# Altium schematic symbol library WE-CCMF.SchLib: 3 symbols
Pins are listed as number, name and electrical type; pins without a type are passive.

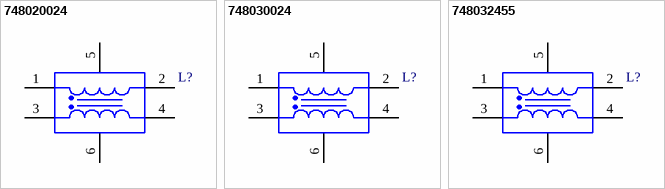
[diagram p0: symbols 748020024 to 748032455]

## 748020024
designator L?, comment 2450MHz, 30dB  (value not drawn)
WE-CCMF Ceramic Common Mode Filter, size 0504, 2450MHz, 30dB; Manufacturer Part Number: 748020024; Manufacturer: Wurth Elektronik; Case/Size Code: 0504; Cut Off Frequency: 8GHz; DC Resistance Max: 2.5Ohm; Impedance @100MHz: 2Ohm; Insulation Resistance: 100MOhm; Rated Current: 300mA; Rated Voltage: 5VDC; Category: Common Mode Chokes; Match Code: WE-CCMF; ComponentLink1Description: Website Link; ComponentLink1URL: https://www.we-online.com/redexpert/article/748020024?ad; ComponentLink2Description: Datasheet Link; ComponentLink2URL: https://www.we-online.com/redexpert/spec/748020024?ad; Mount: Surface Mount; Operating Temperature Max: 85°C; Operating Temperature Min: -40°C; Packaging: Tape and Reel; Length: 1.25mm; Width: 1mm; Height: 0.8mm; Common Mode Attenuation: 30dB; Common Mode Attenuation Test Condition: 2450MHz
footprint WE-CCMF_0504
pins: 1, 2, 3, 4, 5 GND, 6 GND

## 748030024
designator L?, comment 2450MHz, 30dB  (value not drawn)
WE-CCMF Ceramic Common Mode Filter, size 0504, 2450MHz, 30dB; Manufacturer Part Number: 748030024; Manufacturer: Wurth Elektronik; Case/Size Code: 0504; Cut Off Frequency: 12GHz; DC Resistance Max: 2.5Ohm; Impedance @100MHz: 2Ohm; Insulation Resistance: 100MOhm; Rated Current: 300mA; Rated Voltage: 5VDC; Category: Common Mode Chokes; Match Code: WE-CCMF; ComponentLink1Description: Website Link; ComponentLink1URL: https://www.we-online.com/redexpert/article/748030024?ad; ComponentLink2Description: Datasheet Link; ComponentLink2URL: https://www.we-online.com/redexpert/spec/748030024?ad; Mount: Surface Mount; Operating Temperature Max: 85°C; Operating Temperature Min: -40°C; Packaging: Tape and Reel; Length: 1.25mm; Width: 1mm; Height: 0.8mm; Common Mode Attenuation: 30dB; Common Mode Attenuation Test Condition: 2450MHz
footprint WE-CCMF_0504
pins: 1, 2, 3, 4, 5 GND, 6 GND

## 748032455
designator L?, comment 2450 & 5500MHz, 20dB  (value not drawn)
WE-CCMF Ceramic Common Mode Filter, size 0504, 2450 & 5500MHz, 20dB; Manufacturer Part Number: 748032455; Manufacturer: Wurth Elektronik; Case/Size Code: 0504; Cut Off Frequency: 12GHz; DC Resistance Max: 2.5Ohm; Impedance @100MHz: 1.6Ohm; Insulation Resistance: 100MOhm; Rated Current: 300mA; Rated Voltage: 5VDC; Category: Common Mode Chokes; Match Code: WE-CCMF; ComponentLink1Description: Website Link; ComponentLink1URL: https://www.we-online.com/redexpert/article/748032455?ad; ComponentLink2Description: Datasheet Link; ComponentLink2URL: https://www.we-online.com/redexpert/spec/748032455?ad; Mount: Surface Mount; Operating Temperature Max: 85°C; Operating Temperature Min: -40°C; Packaging: Tape and Reel; Length: 1.25mm; Width: 1mm; Height: 0.8mm; Common Mode Attenuation: 20dB; Common Mode Attenuation Test Condition: 2450 & 5500MHz
footprint WE-CCMF_0504
pins: 1, 2, 3, 4, 5 GND, 6 GND